# Altium schematic symbol library Schlib1.SchLib: 1 symbol
Pins are listed as number, name and electrical type; pins without a type are passive.

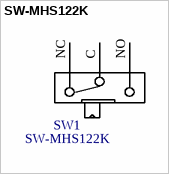
[diagram p0: symbol SW-MHS122K]

## SW-MHS122K
designator SW1
SWITCH DPDT; Supplier 1: Digi-Key; Supplier Part Number 1: 679-1866-ND
footprint MHS122K
pins: C, NC NC2, NO